# Altium integrated library Linear Technology Power Management Supercapacitor Chargers.IntLib: 96 symbols (part 4 of 8)
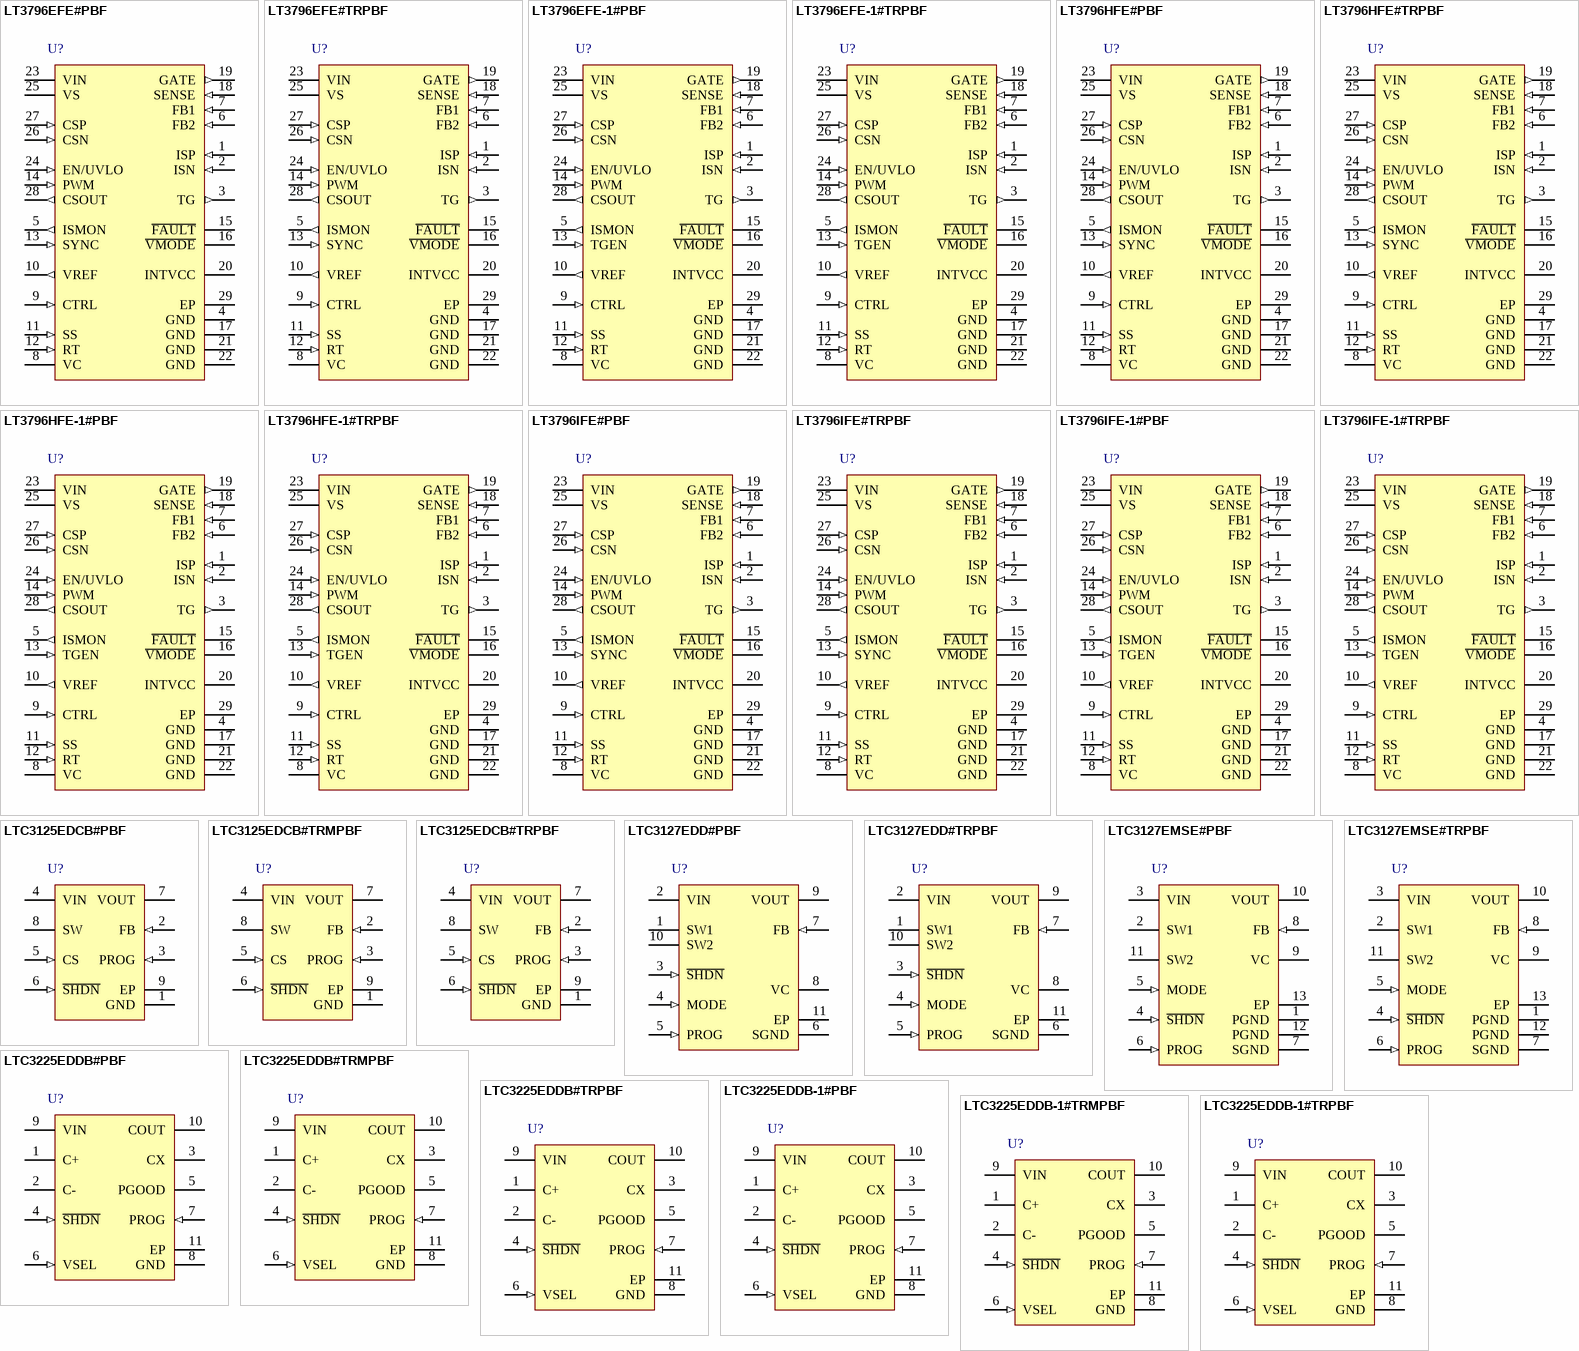
[diagram p6: symbols LT3796EFE#PBF to LTC3225EDDB-1#TRPBF]

## LT3796HFE-1#TRPBF
designator U?
Constant-Current and Constant-Voltage Controller with Dual Current Sense, 6 to 100 V Vin, 100 V Vout MAX, 28-pin SOP (FE-28-EPV-EB), -40 to 150 degC, Pb-Free, Tape and Reel; Manufacturer: Linear Technology; PartNumber: LT3796HFE-1#TRPBF; Output Current(A): 10; Topology: Buck, Boost, Buck-Boost, Sepic; DatasheetVersion: Rev. A; PackageVersion: Rev. J, 11/2012; PackageReference: FE-28; PackageDescription: 28-Pin Plastic TSSOP, Body 9.7 x 4.4 mm, Pitch 0.65 mm; Supplier 1: Digi-Key; Supplier Part Number 1: LT3796HFE-1#TRPBF-ND; Supplier 2: Newark; Supplier Part Number 2: 48W6520; Packing: Tape and Reel; RoHS: TRUE; Mounting Technology: Surface Mount; ComponentLink1Description: Manufacturer URL; ComponentLink1URL: http://www.linear.com/; ComponentLink2Description: Datasheet; ComponentLink2URL: http://cds.linear.com/docs/en/datasheet/3796fa.pdf; ComponentLink3Description: Package Specification; ComponentLink3URL: http://cds.linear.com/docs/en/packaging/05081663__J_FE28(EB).pdf
footprint LT-FE-28-EPV-EB_N (SOP, 28-Leads, Body 9.8x4.5mm, Pitch 0.65mm, Thermal Pad 4.75x2.74mm, IPC Medium Density)
footprint LT-FE-28-EPV-EB_L (SOP, 28-Leads, Body 9.8x4.5mm, Pitch 0.65mm, Thermal Pad 4.75x2.74mm, IPC High Density)
footprint LT-FE-28-EPV-EB_M (SOP, 28-Leads, Body 9.8x4.5mm, Pitch 0.65mm, Thermal Pad 4.75x2.74mm, IPC Low Density)
pins: 1 ISP (in) "Connection Point for the Positive Terminal of the Current Feedback Resistor (RLED ). Also serves as positive rail for TG pin driver.", 2 ISN (in) "Connection Point for the Negative Terminal of the Current Feedback Resistor (RLED ).", 3 TG (out) "Top Gate Driver Output. An inverted PWM signal drives series PMOS device between VISP and (VISP - 7 V) if V ISP > 7 V. An internal 7 V clamp protects the PMOS gate by limiting VGS. Leave TG unconnected if not used.", 4 GND (power) "Ground. These pins also serve as current sense input for control loop, sensing negative terminal of current sense resistor in the source of the N-channel MOSFET. Solder the exposed pad directly to ground plane.", 5 ISMON (out) "ISP / ISN Current Report Pin. The LED current sensed by ISP / ISN inputs is reported as VISMON = ILED ?RLED ?4. Leave ISMON pin unconnected if not used. When PWM is low, ISMON is driven to ground. Bypass with a 47(See Datasheet)", 6 FB2 (in) "Voltage Loop Feedback 2 Pin. This pin is connected to the internal transconductance amplifier positive input node. The internal transconductance amplifier with output VC regulates FB2 to 1.25 V through the DC/ DC converter. (See Datasheet)", 7 FB1 (in) "Voltage Loop Feedback 1 Pin. FB1 is intended for constant-voltage regulation or for LED protection / open LED detection.", 8 VC "Transconductance Error Amplifier Output Pin. Used to stabilize the control loop with an RC network. This pin is high impedance when PWM is low, a feature that stores the demand current state variable for the next PWM high (See Datasheet)", 9 CTRL (in) "Current Sense Threshold Adjustment Pin.", 10 VREF (out) "Voltage Reference Output Pin. Typically 2.015 V. This pin drives a resistor divider for the CTRL pin, either for analog dimming or for temperature limit / compensation of LED load. It can supply up to 100 uA.", 11 SS (in) "Soft-Start Pin. This pin modulates oscillator frequency and compensation pin voltage (VC ) clamp. The soft-start interval is set with an external capacitor.", 12 RT (in) "Switching Frequency Adjustment Pin. Set the frequency using a resistor to GND (for resistor values, see the Typical Performance curve or Table 2). Do not leave the RT pin open.", 13 TGEN (in) "Top Gate Driver Enable Pin. TGEN signal low causes the TG pin to transition high and turn off a PMOS switch, independent of the PWM input. Unlike PWM, TGEN low does not put the switching regulator in an idle state. TGEN can (See Datasheet)", 14 PWM (in) "PWM Input Signal Pin. A signal low turns off switching, idles the oscillator, disconnects the VC pin from all internal loads, and makes the TG pin high. There is an equivalent 500 k resistor from PWM pin to GND internally. (See Datasheet)", 15 ~{FAULT} (oc) "An open-collector pull-down on F\A\U\L\T\ asserts when any of the following conditions happen: 1. FB1 overvoltage (V FB1 > 1.3 V), 2. INTV CC undervoltage, 3. LED overcurrent (V(ISP-ISN) > 375 mV), or 4. Thermal shutdown. If (See Datasheet)", 16 ~{VMODE} (oc) "An open-collector pull-down on V\M\O\D\E\ asserts if the FB1 input is above 1.19 V (typical), and V(ISP-ISN) is less than 25 mV (typical). To function, the pin requires an external pull-up resistor. V\M\O\D\E\ status is (See Datasheet)", 17 GND (power) "Ground. These pins also serve as current sense input for control loop, sensing negative terminal of current sense resistor in the source of the N-channel MOSFET. Solder the exposed pad directly to ground plane.", 18 SENSE (in) "The current sense input for the control loop. Kelvin connect this pin to the positive terminal of the switch current sense resistor, RSENSE , in the source of the N-channel MOSFET. The negative terminal of the current sense (See Datasheet)", 19 GATE (out) "N-Channel MOSFET Gate Driver Output. Switches between INTVCC and GND. It is driven to GND during shutdown, fault or idle states.", 20 INTVCC (power) "Regulated Supply for Internal Loads, GATE Driver and Top Gate (PMOS) Driver. Supplied from VIN and regulates to 7.7 V (typical). INTVCC must be bypassed with a 4.7 uF capacitor placed close to the pin. Connect INTV CC (See Datasheet)", 21 GND (power) "Ground. These pins also serve as current sense input for control loop, sensing negative terminal of current sense resistor in the source of the N-channel MOSFET. Solder the exposed pad directly to ground plane.", 22 GND (power) "Ground. These pins also serve as current sense input for control loop, sensing negative terminal of current sense resistor in the source of the N-channel MOSFET. Solder the exposed pad directly to ground plane.", 23 VIN (power) "Input Supply Pin. Must be locally bypassed with a 0.22 uF (or larger) capacitor placed close to the IC.", 24 EN/UVLO (in) "Enable and Undervoltage Lockout Pin.", 25 VS (power) "Current Sense Amplifier Power Supply Pin. This pin supply current to the current sense amplifier and can operate from 3 V to 100 V.", 26 CSN (in) "Negative Current Sense Input Terminal. CSN remains functional for voltages up to 100 V.", 27 CSP (in) "Positive Current Sense Input Terminal. The internal sense amplifier sinks current from CSP to regulate it to the same potential as CSN. A resistor (RIN1 ) tied from VIN to CSP sets the output current ICSOUT = VSNS /R IN1 .", 28 CSOUT (out) "Current Sense Amplifier Output. CSOUT pin sources the current that is drawn from CSP. Typically is output to an external resistor to GND.", 29 EP (power) "Ground. These pins also serve as current sense input for control loop, sensing negative terminal of current sense resistor in the source of the N-channel MOSFET. Solder the exposed pad directly to ground plane."

## LT3796IFE#PBF
designator U?
Constant-Current and Constant-Voltage Controller with Dual Current Sense, 6 to 100 V Vin, 100 V Vout MAX, 28-pin SOP (FE-28-EPV-EB), -40 to 125 degC, Pb-Free; Manufacturer: Linear Technology; PartNumber: LT3796IFE#PBF; Output Current(A): 10; Topology: Buck, Boost, Buck-Boost, Sepic; DatasheetVersion: Rev. A; PackageVersion: Rev. J, 11/2012; PackageReference: FE-28; PackageDescription: 28-Pin Plastic TSSOP, Body 9.7 x 4.4 mm, Pitch 0.65 mm; Supplier 1: Digi-Key; Supplier Part Number 1: LT3796IFE#PBF-ND; Supplier 2: Newark; Supplier Part Number 2: 93T2037; RoHS: TRUE; Mounting Technology: Surface Mount; ComponentLink1Description: Manufacturer URL; ComponentLink1URL: http://www.linear.com/; ComponentLink2Description: Datasheet; ComponentLink2URL: http://cds.linear.com/docs/en/datasheet/3796fa.pdf; ComponentLink3Description: Package Specification; ComponentLink3URL: http://cds.linear.com/docs/en/packaging/05081663__J_FE28(EB).pdf
footprint LT-FE-28-EPV-EB_N (SOP, 28-Leads, Body 9.8x4.5mm, Pitch 0.65mm, Thermal Pad 4.75x2.74mm, IPC Medium Density)
footprint LT-FE-28-EPV-EB_L (SOP, 28-Leads, Body 9.8x4.5mm, Pitch 0.65mm, Thermal Pad 4.75x2.74mm, IPC High Density)
footprint LT-FE-28-EPV-EB_M (SOP, 28-Leads, Body 9.8x4.5mm, Pitch 0.65mm, Thermal Pad 4.75x2.74mm, IPC Low Density)
pins: 1 ISP (in) "Connection Point for the Positive Terminal of the Current Feedback Resistor (RLED ). Also serves as positive rail for TG pin driver.", 2 ISN (in) "Connection Point for the Negative Terminal of the Current Feedback Resistor (RLED ).", 3 TG (out) "Top Gate Driver Output. An inverted PWM signal drives series PMOS device between VISP and (VISP - 7 V) if V ISP > 7 V. An internal 7 V clamp protects the PMOS gate by limiting VGS. Leave TG unconnected if not used.", 4 GND (power) "Ground. These pins also serve as current sense input for control loop, sensing negative terminal of current sense resistor in the source of the N-channel MOSFET. Solder the exposed pad directly to ground plane.", 5 ISMON (out) "ISP / ISN Current Report Pin. The LED current sensed by ISP / ISN inputs is reported as VISMON = ILED • RLED • 4. Leave ISMON pin unconnected if not used. When PWM is low, ISMON is driven to ground. Bypass with a 47(See Datasheet)", 6 FB2 (in) "Voltage Loop Feedback 2 Pin. This pin is connected to the internal transconductance amplifier positive input node. The internal transconductance amplifier with output VC regulates FB2 to 1.25 V through the DC/ DC converter. (See Datasheet)", 7 FB1 (in) "Voltage Loop Feedback 1 Pin. FB1 is intended for constant-voltage regulation or for LED protection / open LED detection.", 8 VC "Transconductance Error Amplifier Output Pin. Used to stabilize the control loop with an RC network. This pin is high impedance when PWM is low, a feature that stores the demand current state variable for the next PWM high (See Datasheet)", 9 CTRL (in) "Current Sense Threshold Adjustment Pin.", 10 VREF (out) "Voltage Reference Output Pin. Typically 2.015 V. This pin drives a resistor divider for the CTRL pin, either for analog dimming or for temperature limit / compensation of LED load. It can supply up to 100 uA.", 11 SS (in) "Soft-Start Pin. This pin modulates oscillator frequency and compensation pin voltage (VC ) clamp. The soft-start interval is set with an external capacitor.", 12 RT (in) "Switching Frequency Adjustment Pin. Set the frequency using a resistor to GND (for resistor values, see the Typical Performance curve or Table 2). Do not leave the RT pin open.", 13 SYNC (in) "The SYNC pin is used to syn- chronize the internal oscillator to an external logic level signal. If SYNC is used, the RT resistor should be chosen to program an internal switching frequency 20% slower than the SYNC pulse (See Datasheet)", 14 PWM (in) "PWM Input Signal Pin. A signal low turns off switching, idles the oscillator, disconnects the VC pin from all internal loads, and makes the TG pin high. There is an equivalent 500 k resistor from PWM pin to GND internally. (See Datasheet)", 15 ~{FAULT} (oc) "An open-collector pull-down on F\A\U\L\T\ asserts when any of the following conditions happen: 1. FB1 overvoltage (V FB1 > 1.3 V), 2. INTV CC undervoltage, 3. LED overcurrent (V(ISP-ISN) > 375 mV), or 4. Thermal shutdown. If (See Datasheet)", 16 ~{VMODE} (oc) "An open-collector pull-down on V\M\O\D\E\ asserts if the FB1 input is above 1.19 V (typical), and V(ISP-ISN) is less than 25 mV (typical). To function, the pin requires an external pull-up resistor. V\M\O\D\E\ status is (See Datasheet)", 17 GND (power) "Ground. These pins also serve as current sense input for control loop, sensing negative terminal of current sense resistor in the source of the N-channel MOSFET. Solder the exposed pad directly to ground plane.", 18 SENSE (in) "The current sense input for the control loop. Kelvin connect this pin to the positive terminal of the switch current sense resistor, RSENSE , in the source of the N-channel MOSFET. The negative terminal of the current sense (See Datasheet)", 19 GATE (out) "N-Channel MOSFET Gate Driver Output. Switches between INTVCC and GND. It is driven to GND during shutdown, fault or idle states.", 20 INTVCC (power) "Regulated Supply for Internal Loads, GATE Driver and Top Gate (PMOS) Driver. Supplied from VIN and regulates to 7.7 V (typical). INTVCC must be bypassed with a 4.7 uF capacitor placed close to the pin. Connect INTV CC (See Datasheet)", 21 GND (power) "Ground. These pins also serve as current sense input for control loop, sensing negative terminal of current sense resistor in the source of the N-channel MOSFET. Solder the exposed pad directly to ground plane.", 22 GND (power) "Ground. These pins also serve as current sense input for control loop, sensing negative terminal of current sense resistor in the source of the N-channel MOSFET. Solder the exposed pad directly to ground plane.", 23 VIN (power) "Input Supply Pin. Must be locally bypassed with a 0.22 uF (or larger) capacitor placed close to the IC.", 24 EN/UVLO (in) "Enable and Undervoltage Lockout Pin.", 25 VS (power) "Current Sense Amplifier Power Supply Pin. This pin supply current to the current sense amplifier and can operate from 3 V to 100 V.", 26 CSN (in) "Negative Current Sense Input Terminal. CSN remains functional for voltages up to 100 V.", 27 CSP (in) "Positive Current Sense Input Terminal. The internal sense amplifier sinks current from CSP to regulate it to the same potential as CSN. A resistor (RIN1 ) tied from VIN to CSP sets the output current ICSOUT = VSNS /R IN1 .", 28 CSOUT (out) "Current Sense Amplifier Output. CSOUT pin sources the current that is drawn from CSP. Typically is output to an external resistor to GND.", 29 EP (power) "Ground. These pins also serve as current sense input for control loop, sensing negative terminal of current sense resistor in the source of the N-channel MOSFET. Solder the exposed pad directly to ground plane."

## LT3796IFE#TRPBF
designator U?
Constant-Current and Constant-Voltage Controller with Dual Current Sense, 6 to 100 V Vin, 100 V Vout MAX, 28-pin SOP (FE-28-EPV-EB), -40 to 125 degC, Pb-Free, Tape and Reel; Manufacturer: Linear Technology; PartNumber: LT3796IFE#TRPBF; Output Current(A): 10; Topology: Buck, Boost, Buck-Boost, Sepic; DatasheetVersion: Rev. A; PackageVersion: Rev. J, 11/2012; PackageReference: FE-28; PackageDescription: 28-Pin Plastic TSSOP, Body 9.7 x 4.4 mm, Pitch 0.65 mm; Supplier 1: Digi-Key; Supplier Part Number 1: LT3796IFE#TRPBF-ND; Supplier 2: Newark; Supplier Part Number 2: 93T2038; Packing: Tape and Reel; RoHS: TRUE; Mounting Technology: Surface Mount; ComponentLink1Description: Manufacturer URL; ComponentLink1URL: http://www.linear.com/; ComponentLink2Description: Datasheet; ComponentLink2URL: http://cds.linear.com/docs/en/datasheet/3796fa.pdf; ComponentLink3Description: Package Specification; ComponentLink3URL: http://cds.linear.com/docs/en/packaging/05081663__J_FE28(EB).pdf
footprint LT-FE-28-EPV-EB_N (SOP, 28-Leads, Body 9.8x4.5mm, Pitch 0.65mm, Thermal Pad 4.75x2.74mm, IPC Medium Density)
footprint LT-FE-28-EPV-EB_L (SOP, 28-Leads, Body 9.8x4.5mm, Pitch 0.65mm, Thermal Pad 4.75x2.74mm, IPC High Density)
footprint LT-FE-28-EPV-EB_M (SOP, 28-Leads, Body 9.8x4.5mm, Pitch 0.65mm, Thermal Pad 4.75x2.74mm, IPC Low Density)
pins: 1 ISP (in) "Connection Point for the Positive Terminal of the Current Feedback Resistor (RLED ). Also serves as positive rail for TG pin driver.", 2 ISN (in) "Connection Point for the Negative Terminal of the Current Feedback Resistor (RLED ).", 3 TG (out) "Top Gate Driver Output. An inverted PWM signal drives series PMOS device between VISP and (VISP - 7 V) if V ISP > 7 V. An internal 7 V clamp protects the PMOS gate by limiting VGS. Leave TG unconnected if not used.", 4 GND (power) "Ground. These pins also serve as current sense input for control loop, sensing negative terminal of current sense resistor in the source of the N-channel MOSFET. Solder the exposed pad directly to ground plane.", 5 ISMON (out) "ISP / ISN Current Report Pin. The LED current sensed by ISP / ISN inputs is reported as VISMON = ILED • RLED • 4. Leave ISMON pin unconnected if not used. When PWM is low, ISMON is driven to ground. Bypass with a 47(See Datasheet)", 6 FB2 (in) "Voltage Loop Feedback 2 Pin. This pin is connected to the internal transconductance amplifier positive input node. The internal transconductance amplifier with output VC regulates FB2 to 1.25 V through the DC/ DC converter. (See Datasheet)", 7 FB1 (in) "Voltage Loop Feedback 1 Pin. FB1 is intended for constant-voltage regulation or for LED protection / open LED detection.", 8 VC "Transconductance Error Amplifier Output Pin. Used to stabilize the control loop with an RC network. This pin is high impedance when PWM is low, a feature that stores the demand current state variable for the next PWM high (See Datasheet)", 9 CTRL (in) "Current Sense Threshold Adjustment Pin.", 10 VREF (out) "Voltage Reference Output Pin. Typically 2.015 V. This pin drives a resistor divider for the CTRL pin, either for analog dimming or for temperature limit / compensation of LED load. It can supply up to 100 uA.", 11 SS (in) "Soft-Start Pin. This pin modulates oscillator frequency and compensation pin voltage (VC ) clamp. The soft-start interval is set with an external capacitor.", 12 RT (in) "Switching Frequency Adjustment Pin. Set the frequency using a resistor to GND (for resistor values, see the Typical Performance curve or Table 2). Do not leave the RT pin open.", 13 SYNC (in) "The SYNC pin is used to syn- chronize the internal oscillator to an external logic level signal. If SYNC is used, the RT resistor should be chosen to program an internal switching frequency 20% slower than the SYNC pulse (See Datasheet)", 14 PWM (in) "PWM Input Signal Pin. A signal low turns off switching, idles the oscillator, disconnects the VC pin from all internal loads, and makes the TG pin high. There is an equivalent 500 k resistor from PWM pin to GND internally. (See Datasheet)", 15 ~{FAULT} (oc) "An open-collector pull-down on F\A\U\L\T\ asserts when any of the following conditions happen: 1. FB1 overvoltage (V FB1 > 1.3 V), 2. INTV CC undervoltage, 3. LED overcurrent (V(ISP-ISN) > 375 mV), or 4. Thermal shutdown. If (See Datasheet)", 16 ~{VMODE} (oc) "An open-collector pull-down on V\M\O\D\E\ asserts if the FB1 input is above 1.19 V (typical), and V(ISP-ISN) is less than 25 mV (typical). To function, the pin requires an external pull-up resistor. V\M\O\D\E\ status is (See Datasheet)", 17 GND (power) "Ground. These pins also serve as current sense input for control loop, sensing negative terminal of current sense resistor in the source of the N-channel MOSFET. Solder the exposed pad directly to ground plane.", 18 SENSE (in) "The current sense input for the control loop. Kelvin connect this pin to the positive terminal of the switch current sense resistor, RSENSE , in the source of the N-channel MOSFET. The negative terminal of the current sense (See Datasheet)", 19 GATE (out) "N-Channel MOSFET Gate Driver Output. Switches between INTVCC and GND. It is driven to GND during shutdown, fault or idle states.", 20 INTVCC (power) "Regulated Supply for Internal Loads, GATE Driver and Top Gate (PMOS) Driver. Supplied from VIN and regulates to 7.7 V (typical). INTVCC must be bypassed with a 4.7 uF capacitor placed close to the pin. Connect INTV CC (See Datasheet)", 21 GND (power) "Ground. These pins also serve as current sense input for control loop, sensing negative terminal of current sense resistor in the source of the N-channel MOSFET. Solder the exposed pad directly to ground plane.", 22 GND (power) "Ground. These pins also serve as current sense input for control loop, sensing negative terminal of current sense resistor in the source of the N-channel MOSFET. Solder the exposed pad directly to ground plane.", 23 VIN (power) "Input Supply Pin. Must be locally bypassed with a 0.22 uF (or larger) capacitor placed close to the IC.", 24 EN/UVLO (in) "Enable and Undervoltage Lockout Pin.", 25 VS (power) "Current Sense Amplifier Power Supply Pin. This pin supply current to the current sense amplifier and can operate from 3 V to 100 V.", 26 CSN (in) "Negative Current Sense Input Terminal. CSN remains functional for voltages up to 100 V.", 27 CSP (in) "Positive Current Sense Input Terminal. The internal sense amplifier sinks current from CSP to regulate it to the same potential as CSN. A resistor (RIN1 ) tied from VIN to CSP sets the output current ICSOUT = VSNS /R IN1 .", 28 CSOUT (out) "Current Sense Amplifier Output. CSOUT pin sources the current that is drawn from CSP. Typically is output to an external resistor to GND.", 29 EP (power) "Ground. These pins also serve as current sense input for control loop, sensing negative terminal of current sense resistor in the source of the N-channel MOSFET. Solder the exposed pad directly to ground plane."

## LT3796IFE-1#PBF
designator U?
Constant-Current and Constant-Voltage Controller with Dual Current Sense, 6 to 100 V Vin, 100 V Vout MAX, 28-pin SOP (FE-28-EPV-EB), -40 to 125 degC, Pb-Free; Manufacturer: Linear Technology; PartNumber: LT3796IFE-1#PBF; Output Current(A): 10; Topology: Buck, Boost, Buck-Boost, Sepic; DatasheetVersion: Rev. A; PackageVersion: Rev. J, 11/2012; PackageReference: FE-28; PackageDescription: 28-Pin Plastic TSSOP, Body 9.7 x 4.4 mm, Pitch 0.65 mm; Supplier 1: Digi-Key; Supplier Part Number 1: LT3796IFE-1#PBF-ND; Supplier 2: Newark; Supplier Part Number 2: 48W6521; RoHS: TRUE; Mounting Technology: Surface Mount; ComponentLink1Description: Manufacturer URL; ComponentLink1URL: http://www.linear.com/; ComponentLink2Description: Datasheet; ComponentLink2URL: http://cds.linear.com/docs/en/datasheet/3796fa.pdf; ComponentLink3Description: Package Specification; ComponentLink3URL: http://cds.linear.com/docs/en/packaging/05081663__J_FE28(EB).pdf
footprint LT-FE-28-EPV-EB_N (SOP, 28-Leads, Body 9.8x4.5mm, Pitch 0.65mm, Thermal Pad 4.75x2.74mm, IPC Medium Density)
footprint LT-FE-28-EPV-EB_L (SOP, 28-Leads, Body 9.8x4.5mm, Pitch 0.65mm, Thermal Pad 4.75x2.74mm, IPC High Density)
footprint LT-FE-28-EPV-EB_M (SOP, 28-Leads, Body 9.8x4.5mm, Pitch 0.65mm, Thermal Pad 4.75x2.74mm, IPC Low Density)
pins: 1 ISP (in) "Connection Point for the Positive Terminal of the Current Feedback Resistor (RLED ). Also serves as positive rail for TG pin driver.", 2 ISN (in) "Connection Point for the Negative Terminal of the Current Feedback Resistor (RLED ).", 3 TG (out) "Top Gate Driver Output. An inverted PWM signal drives series PMOS device between VISP and (VISP - 7 V) if V ISP > 7 V. An internal 7 V clamp protects the PMOS gate by limiting VGS. Leave TG unconnected if not used.", 4 GND (power) "Ground. These pins also serve as current sense input for control loop, sensing negative terminal of current sense resistor in the source of the N-channel MOSFET. Solder the exposed pad directly to ground plane.", 5 ISMON (out) "ISP / ISN Current Report Pin. The LED current sensed by ISP / ISN inputs is reported as VISMON = ILED ?RLED ?4. Leave ISMON pin unconnected if not used. When PWM is low, ISMON is driven to ground. Bypass with a 47(See Datasheet)", 6 FB2 (in) "Voltage Loop Feedback 2 Pin. This pin is connected to the internal transconductance amplifier positive input node. The internal transconductance amplifier with output VC regulates FB2 to 1.25 V through the DC/ DC converter. (See Datasheet)", 7 FB1 (in) "Voltage Loop Feedback 1 Pin. FB1 is intended for constant-voltage regulation or for LED protection / open LED detection.", 8 VC "Transconductance Error Amplifier Output Pin. Used to stabilize the control loop with an RC network. This pin is high impedance when PWM is low, a feature that stores the demand current state variable for the next PWM high (See Datasheet)", 9 CTRL (in) "Current Sense Threshold Adjustment Pin.", 10 VREF (out) "Voltage Reference Output Pin. Typically 2.015 V. This pin drives a resistor divider for the CTRL pin, either for analog dimming or for temperature limit / compensation of LED load. It can supply up to 100 uA.", 11 SS (in) "Soft-Start Pin. This pin modulates oscillator frequency and compensation pin voltage (VC ) clamp. The soft-start interval is set with an external capacitor.", 12 RT (in) "Switching Frequency Adjustment Pin. Set the frequency using a resistor to GND (for resistor values, see the Typical Performance curve or Table 2). Do not leave the RT pin open.", 13 TGEN (in) "Top Gate Driver Enable Pin. TGEN signal low causes the TG pin to transition high and turn off a PMOS switch, independent of the PWM input. Unlike PWM, TGEN low does not put the switching regulator in an idle state. TGEN can (See Datasheet)", 14 PWM (in) "PWM Input Signal Pin. A signal low turns off switching, idles the oscillator, disconnects the VC pin from all internal loads, and makes the TG pin high. There is an equivalent 500 k resistor from PWM pin to GND internally. (See Datasheet)", 15 ~{FAULT} (oc) "An open-collector pull-down on F\A\U\L\T\ asserts when any of the following conditions happen: 1. FB1 overvoltage (V FB1 > 1.3 V), 2. INTV CC undervoltage, 3. LED overcurrent (V(ISP-ISN) > 375 mV), or 4. Thermal shutdown. If (See Datasheet)", 16 ~{VMODE} (oc) "An open-collector pull-down on V\M\O\D\E\ asserts if the FB1 input is above 1.19 V (typical), and V(ISP-ISN) is less than 25 mV (typical). To function, the pin requires an external pull-up resistor. V\M\O\D\E\ status is (See Datasheet)", 17 GND (power) "Ground. These pins also serve as current sense input for control loop, sensing negative terminal of current sense resistor in the source of the N-channel MOSFET. Solder the exposed pad directly to ground plane.", 18 SENSE (in) "The current sense input for the control loop. Kelvin connect this pin to the positive terminal of the switch current sense resistor, RSENSE , in the source of the N-channel MOSFET. The negative terminal of the current sense (See Datasheet)", 19 GATE (out) "N-Channel MOSFET Gate Driver Output. Switches between INTVCC and GND. It is driven to GND during shutdown, fault or idle states.", 20 INTVCC (power) "Regulated Supply for Internal Loads, GATE Driver and Top Gate (PMOS) Driver. Supplied from VIN and regulates to 7.7 V (typical). INTVCC must be bypassed with a 4.7 uF capacitor placed close to the pin. Connect INTV CC (See Datasheet)", 21 GND (power) "Ground. These pins also serve as current sense input for control loop, sensing negative terminal of current sense resistor in the source of the N-channel MOSFET. Solder the exposed pad directly to ground plane.", 22 GND (power) "Ground. These pins also serve as current sense input for control loop, sensing negative terminal of current sense resistor in the source of the N-channel MOSFET. Solder the exposed pad directly to ground plane.", 23 VIN (power) "Input Supply Pin. Must be locally bypassed with a 0.22 uF (or larger) capacitor placed close to the IC.", 24 EN/UVLO (in) "Enable and Undervoltage Lockout Pin.", 25 VS (power) "Current Sense Amplifier Power Supply Pin. This pin supply current to the current sense amplifier and can operate from 3 V to 100 V.", 26 CSN (in) "Negative Current Sense Input Terminal. CSN remains functional for voltages up to 100 V.", 27 CSP (in) "Positive Current Sense Input Terminal. The internal sense amplifier sinks current from CSP to regulate it to the same potential as CSN. A resistor (RIN1 ) tied from VIN to CSP sets the output current ICSOUT = VSNS /R IN1 .", 28 CSOUT (out) "Current Sense Amplifier Output. CSOUT pin sources the current that is drawn from CSP. Typically is output to an external resistor to GND.", 29 EP (power) "Ground. These pins also serve as current sense input for control loop, sensing negative terminal of current sense resistor in the source of the N-channel MOSFET. Solder the exposed pad directly to ground plane."

## LT3796IFE-1#TRPBF
designator U?
Constant-Current and Constant-Voltage Controller with Dual Current Sense, 6 to 100 V Vin, 100 V Vout MAX, 28-pin SOP (FE-28-EPV-EB), -40 to 125 degC, Pb-Free, Tape and Reel; Manufacturer: Linear Technology; PartNumber: LT3796IFE-1#TRPBF; Output Current(A): 10; Topology: Buck, Boost, Buck-Boost, Sepic; DatasheetVersion: Rev. A; PackageVersion: Rev. J, 11/2012; PackageReference: FE-28; PackageDescription: 28-Pin Plastic TSSOP, Body 9.7 x 4.4 mm, Pitch 0.65 mm; Supplier 1: Digi-Key; Supplier Part Number 1: LT3796IFE-1#TRPBF-ND; Supplier 2: Newark; Supplier Part Number 2: 48W6522; Packing: Tape and Reel; RoHS: TRUE; Mounting Technology: Surface Mount; ComponentLink1Description: Manufacturer URL; ComponentLink1URL: http://www.linear.com/; ComponentLink2Description: Datasheet; ComponentLink2URL: http://cds.linear.com/docs/en/datasheet/3796fa.pdf; ComponentLink3Description: Package Specification; ComponentLink3URL: http://cds.linear.com/docs/en/packaging/05081663__J_FE28(EB).pdf
footprint LT-FE-28-EPV-EB_N (SOP, 28-Leads, Body 9.8x4.5mm, Pitch 0.65mm, Thermal Pad 4.75x2.74mm, IPC Medium Density)
footprint LT-FE-28-EPV-EB_L (SOP, 28-Leads, Body 9.8x4.5mm, Pitch 0.65mm, Thermal Pad 4.75x2.74mm, IPC High Density)
footprint LT-FE-28-EPV-EB_M (SOP, 28-Leads, Body 9.8x4.5mm, Pitch 0.65mm, Thermal Pad 4.75x2.74mm, IPC Low Density)
pins: 1 ISP (in) "Connection Point for the Positive Terminal of the Current Feedback Resistor (RLED ). Also serves as positive rail for TG pin driver.", 2 ISN (in) "Connection Point for the Negative Terminal of the Current Feedback Resistor (RLED ).", 3 TG (out) "Top Gate Driver Output. An inverted PWM signal drives series PMOS device between VISP and (VISP - 7 V) if V ISP > 7 V. An internal 7 V clamp protects the PMOS gate by limiting VGS. Leave TG unconnected if not used.", 4 GND (power) "Ground. These pins also serve as current sense input for control loop, sensing negative terminal of current sense resistor in the source of the N-channel MOSFET. Solder the exposed pad directly to ground plane.", 5 ISMON (out) "ISP / ISN Current Report Pin. The LED current sensed by ISP / ISN inputs is reported as VISMON = ILED ?RLED ?4. Leave ISMON pin unconnected if not used. When PWM is low, ISMON is driven to ground. Bypass with a 47(See Datasheet)", 6 FB2 (in) "Voltage Loop Feedback 2 Pin. This pin is connected to the internal transconductance amplifier positive input node. The internal transconductance amplifier with output VC regulates FB2 to 1.25 V through the DC/ DC converter. (See Datasheet)", 7 FB1 (in) "Voltage Loop Feedback 1 Pin. FB1 is intended for constant-voltage regulation or for LED protection / open LED detection.", 8 VC "Transconductance Error Amplifier Output Pin. Used to stabilize the control loop with an RC network. This pin is high impedance when PWM is low, a feature that stores the demand current state variable for the next PWM high (See Datasheet)", 9 CTRL (in) "Current Sense Threshold Adjustment Pin.", 10 VREF (out) "Voltage Reference Output Pin. Typically 2.015 V. This pin drives a resistor divider for the CTRL pin, either for analog dimming or for temperature limit / compensation of LED load. It can supply up to 100 uA.", 11 SS (in) "Soft-Start Pin. This pin modulates oscillator frequency and compensation pin voltage (VC ) clamp. The soft-start interval is set with an external capacitor.", 12 RT (in) "Switching Frequency Adjustment Pin. Set the frequency using a resistor to GND (for resistor values, see the Typical Performance curve or Table 2). Do not leave the RT pin open.", 13 TGEN (in) "Top Gate Driver Enable Pin. TGEN signal low causes the TG pin to transition high and turn off a PMOS switch, independent of the PWM input. Unlike PWM, TGEN low does not put the switching regulator in an idle state. TGEN can (See Datasheet)", 14 PWM (in) "PWM Input Signal Pin. A signal low turns off switching, idles the oscillator, disconnects the VC pin from all internal loads, and makes the TG pin high. There is an equivalent 500 k resistor from PWM pin to GND internally. (See Datasheet)", 15 ~{FAULT} (oc) "An open-collector pull-down on F\A\U\L\T\ asserts when any of the following conditions happen: 1. FB1 overvoltage (V FB1 > 1.3 V), 2. INTV CC undervoltage, 3. LED overcurrent (V(ISP-ISN) > 375 mV), or 4. Thermal shutdown. If (See Datasheet)", 16 ~{VMODE} (oc) "An open-collector pull-down on V\M\O\D\E\ asserts if the FB1 input is above 1.19 V (typical), and V(ISP-ISN) is less than 25 mV (typical). To function, the pin requires an external pull-up resistor. V\M\O\D\E\ status is (See Datasheet)", 17 GND (power) "Ground. These pins also serve as current sense input for control loop, sensing negative terminal of current sense resistor in the source of the N-channel MOSFET. Solder the exposed pad directly to ground plane.", 18 SENSE (in) "The current sense input for the control loop. Kelvin connect this pin to the positive terminal of the switch current sense resistor, RSENSE , in the source of the N-channel MOSFET. The negative terminal of the current sense (See Datasheet)", 19 GATE (out) "N-Channel MOSFET Gate Driver Output. Switches between INTVCC and GND. It is driven to GND during shutdown, fault or idle states.", 20 INTVCC (power) "Regulated Supply for Internal Loads, GATE Driver and Top Gate (PMOS) Driver. Supplied from VIN and regulates to 7.7 V (typical). INTVCC must be bypassed with a 4.7 uF capacitor placed close to the pin. Connect INTV CC (See Datasheet)", 21 GND (power) "Ground. These pins also serve as current sense input for control loop, sensing negative terminal of current sense resistor in the source of the N-channel MOSFET. Solder the exposed pad directly to ground plane.", 22 GND (power) "Ground. These pins also serve as current sense input for control loop, sensing negative terminal of current sense resistor in the source of the N-channel MOSFET. Solder the exposed pad directly to ground plane.", 23 VIN (power) "Input Supply Pin. Must be locally bypassed with a 0.22 uF (or larger) capacitor placed close to the IC.", 24 EN/UVLO (in) "Enable and Undervoltage Lockout Pin.", 25 VS (power) "Current Sense Amplifier Power Supply Pin. This pin supply current to the current sense amplifier and can operate from 3 V to 100 V.", 26 CSN (in) "Negative Current Sense Input Terminal. CSN remains functional for voltages up to 100 V.", 27 CSP (in) "Positive Current Sense Input Terminal. The internal sense amplifier sinks current from CSP to regulate it to the same potential as CSN. A resistor (RIN1 ) tied from VIN to CSP sets the output current ICSOUT = VSNS /R IN1 .", 28 CSOUT (out) "Current Sense Amplifier Output. CSOUT pin sources the current that is drawn from CSP. Typically is output to an external resistor to GND.", 29 EP (power) "Ground. These pins also serve as current sense input for control loop, sensing negative terminal of current sense resistor in the source of the N-channel MOSFET. Solder the exposed pad directly to ground plane."

## LTC3125EDCB#PBF
designator U?
1.2 A Synchronous Step-Up DC/DC Converter with Input Current Limit, 1.6 to 5.5 V Vin, 5.25 V Vout MAX, 8-pin SON (DCB-8), -40 to 125 degC, Pb-Free; Manufacturer: Linear Technology; PartNumber: LTC3125EDCB#PBF; Output Current(A): 1; Topology: Boost; DatasheetVersion: Rev. A; PackageVersion: Rev. A, 06/2010; PackageReference: DCB-8; PackageDescription: 8-Pin Plastic DFN, Body 2 x 3 mm, Pitch 0.45 mm; Supplier 1: Newark; Supplier Part Number 1: 44P2418; RoHS: TRUE; Mounting Technology: Surface Mount; ComponentLink1Description: Manufacturer URL; ComponentLink1URL: http://www.linear.com/; ComponentLink2Description: Datasheet; ComponentLink2URL: http://cds.linear.com/docs/en/datasheet/3125fa.pdf; ComponentLink3Description: Package Specification; ComponentLink3URL: http://cds.linear.com/docs/en/packaging/DFN_8_05-08-1718.pdf
footprint LT-DCB-8_V (SON, 8-Leads, Body 3x2mm, Pitch 0.45mm, Thermal Pad 1.65x1.35mm)
pins: 1 GND (power) "Ground. The exposed pad must be soldered to the PCB ground plane for electrical connection and for rated thermal performance.", 2 FB (in) "Feedback Input to the Error Amplifier. Connect the resistor divider tap to this pin. The top of the divider connects to VOUT and the bottom of the divider connects to GND. The output voltage can be adjusted from 1.8V to 5.(See Datasheet)", 3 PROG (in) "Programming Input for Average Input Current. This pin should be connected to ground through an external resistor (RPROG) to set input average current limit threshold. Refer to the Component Selection section in Applications (See Datasheet)", 4 VIN (power) "Input Voltage. The device is powered from VIN until VOUT exceeds VIN. Once VOUT is greater than (VIN + 0.25V), the device is powered from VOUT. Place a ceramic bypass capacitor from VIN to GND. A minimum value of 1uF is (See Datasheet)", 5 CS (in) "Current Sense Resistor Connection Point. Connect the inductor directly to CS. An internal 60mohm sense resistor is connected between CS and VIN.", 6 ~{SHDN} (in) "Logic Controlled Shutdown Input. Bringing this pin above 1V enables the part, forcing this pin below 0.35V disables the part.", 7 VOUT (power) "Output Voltage Sense and the Output of the Synchronous Rectifier. Connect the output fi lter capacitor from VOUT to GND, close to the IC. A minimum value of 150uF is recommended. Due to the output disconnect feature, VOUT is (See Datasheet)", 8 SW "Switch Pin. Connect an inductor from this pin to CS. An internal anti-ringing resistor is connected across SW and CS after the inductor current has dropped near zero.", 9 EP (power) "Ground. The exposed pad must be soldered to the PCB ground plane for electrical connection and for rated thermal performance."

## LTC3125EDCB#TRMPBF
designator U?
1.2 A Synchronous Step-Up DC/DC Converter with Input Current Limit, 1.6 to 5.5 V Vin, 5.25 V Vout MAX, 8-pin SON (DCB-8), -40 to 125 degC, Pb-Free, Mini Tape and Reel; Manufacturer: Linear Technology; PartNumber: LTC3125EDCB#TRMPBF; Output Current(A): 1; Topology: Boost; DatasheetVersion: Rev. A; PackageVersion: Rev. A, 06/2010; PackageReference: DCB-8; PackageDescription: 8-Pin Plastic DFN, Body 2 x 3 mm, Pitch 0.45 mm; Supplier 1: Digi-Key; Supplier Part Number 1: LTC3125EDCB#TRMPBFTR-ND; Supplier 2: Digi-Key; Supplier Part Number 2: LTC3125EDCB#TRMPBFCT-ND; Supplier 3: Digi-Key; Supplier Part Number 3: LTC3125EDCB#TRMPBFDKR-ND; Supplier 4: Farnell; Supplier Part Number 4: 1715212RL; Supplier 5: Farnell; Supplier Part Number 5: 1715212; Supplier 6: Newark; Supplier Part Number 6: 44P2419; Packing: Mini Tape and Reel; RoHS: TRUE; Mounting Technology: Surface Mount; ComponentLink1Description: Manufacturer URL; ComponentLink1URL: http://www.linear.com/; ComponentLink2Description: Datasheet; ComponentLink2URL: http://cds.linear.com/docs/en/datasheet/3125fa.pdf; ComponentLink3Description: Package Specification; ComponentLink3URL: http://cds.linear.com/docs/en/packaging/DFN_8_05-08-1718.pdf
footprint LT-DCB-8_V (SON, 8-Leads, Body 3x2mm, Pitch 0.45mm, Thermal Pad 1.65x1.35mm)
pins: 1 GND (power) "Ground. The exposed pad must be soldered to the PCB ground plane for electrical connection and for rated thermal performance.", 2 FB (in) "Feedback Input to the Error Amplifier. Connect the resistor divider tap to this pin. The top of the divider connects to VOUT and the bottom of the divider connects to GND. The output voltage can be adjusted from 1.8V to 5.(See Datasheet)", 3 PROG (in) "Programming Input for Average Input Current. This pin should be connected to ground through an external resistor (RPROG) to set input average current limit threshold. Refer to the Component Selection section in Applications (See Datasheet)", 4 VIN (power) "Input Voltage. The device is powered from VIN until VOUT exceeds VIN. Once VOUT is greater than (VIN + 0.25V), the device is powered from VOUT. Place a ceramic bypass capacitor from VIN to GND. A minimum value of 1uF is (See Datasheet)", 5 CS (in) "Current Sense Resistor Connection Point. Connect the inductor directly to CS. An internal 60mohm sense resistor is connected between CS and VIN.", 6 ~{SHDN} (in) "Logic Controlled Shutdown Input. Bringing this pin above 1V enables the part, forcing this pin below 0.35V disables the part.", 7 VOUT (power) "Output Voltage Sense and the Output of the Synchronous Rectifier. Connect the output fi lter capacitor from VOUT to GND, close to the IC. A minimum value of 150uF is recommended. Due to the output disconnect feature, VOUT is (See Datasheet)", 8 SW "Switch Pin. Connect an inductor from this pin to CS. An internal anti-ringing resistor is connected across SW and CS after the inductor current has dropped near zero.", 9 EP (power) "Ground. The exposed pad must be soldered to the PCB ground plane for electrical connection and for rated thermal performance."

## LTC3125EDCB#TRPBF
designator U?
1.2 A Synchronous Step-Up DC/DC Converter with Input Current Limit, 1.6 to 5.5 V Vin, 5.25 V Vout MAX, 8-pin SON (DCB-8), -40 to 125 degC, Pb-Free, Tape and Reel; Manufacturer: Linear Technology; PartNumber: LTC3125EDCB#TRPBF; Output Current(A): 1; Topology: Boost; DatasheetVersion: Rev. A; PackageVersion: Rev. A, 06/2010; PackageReference: DCB-8; PackageDescription: 8-Pin Plastic DFN, Body 2 x 3 mm, Pitch 0.45 mm; Supplier 1: Digi-Key; Supplier Part Number 1: LTC3125EDCB#TRPBF-ND; Packing: Tape and Reel; RoHS: TRUE; Mounting Technology: Surface Mount; ComponentLink1Description: Manufacturer URL; ComponentLink1URL: http://www.linear.com/; ComponentLink2Description: Datasheet; ComponentLink2URL: http://cds.linear.com/docs/en/datasheet/3125fa.pdf; ComponentLink3Description: Package Specification; ComponentLink3URL: http://cds.linear.com/docs/en/packaging/DFN_8_05-08-1718.pdf
footprint LT-DCB-8_V (SON, 8-Leads, Body 3x2mm, Pitch 0.45mm, Thermal Pad 1.65x1.35mm)
pins: 1 GND (power) "Ground. The exposed pad must be soldered to the PCB ground plane for electrical connection and for rated thermal performance.", 2 FB (in) "Feedback Input to the Error Amplifier. Connect the resistor divider tap to this pin. The top of the divider connects to VOUT and the bottom of the divider connects to GND. The output voltage can be adjusted from 1.8V to 5.(See Datasheet)", 3 PROG (in) "Programming Input for Average Input Current. This pin should be connected to ground through an external resistor (RPROG) to set input average current limit threshold. Refer to the Component Selection section in Applications (See Datasheet)", 4 VIN (power) "Input Voltage. The device is powered from VIN until VOUT exceeds VIN. Once VOUT is greater than (VIN + 0.25V), the device is powered from VOUT. Place a ceramic bypass capacitor from VIN to GND. A minimum value of 1uF is (See Datasheet)", 5 CS (in) "Current Sense Resistor Connection Point. Connect the inductor directly to CS. An internal 60mohm sense resistor is connected between CS and VIN.", 6 ~{SHDN} (in) "Logic Controlled Shutdown Input. Bringing this pin above 1V enables the part, forcing this pin below 0.35V disables the part.", 7 VOUT (power) "Output Voltage Sense and the Output of the Synchronous Rectifier. Connect the output fi lter capacitor from VOUT to GND, close to the IC. A minimum value of 150uF is recommended. Due to the output disconnect feature, VOUT is (See Datasheet)", 8 SW "Switch Pin. Connect an inductor from this pin to CS. An internal anti-ringing resistor is connected across SW and CS after the inductor current has dropped near zero.", 9 EP (power) "Ground. The exposed pad must be soldered to the PCB ground plane for electrical connection and for rated thermal performance."

## LTC3127EDD#PBF
designator U?
1 A Buck-Boost DC/DC Converer with Porgrammable Input Current Limit, 1.8 to 5.5 V Vin, 5.25 V Vout MAX, 10-pin SON (DD-10), -40 to 85 degC, Pb-Free; Manufacturer: Linear Technology; PartNumber: LTC3127EDD#PBF; Output Current(A): 1; PackageVersion: Rev. C, 06/2010; PackageReference: DD-10; PackageDescription: 10-Pin Plastic DFN, Body 3 x 3 mm, Pitch 0.5 mm; Supplier 1: Digi-Key; Supplier Part Number 1: LTC3127EDD#PBF-ND; Supplier 2: Farnell; Supplier Part Number 2: 1839136; Supplier 3: Newark; Supplier Part Number 3: 67R4281; RoHS: TRUE; Topology: Buck-Boost; Mounting Technology: Surface Mount; Code_JEDEC: MO-229; ComponentLink1Description: Manufacturer URL; ComponentLink1URL: http://www.linear.com/; ComponentLink2Description: Datasheet; ComponentLink2URL: http://cds.linear.com/docs/en/datasheet/3127f.pdf; ComponentLink3Description: Package Specification; ComponentLink3URL: http://cds.linear.com/docs/en/packaging/DFN_10_05-08-1699.pdf
footprint LT-DD-10_V (SON, 10-Leads, Body 3x3mm, Pitch 0.5mm, Thermal Pad 2.38x1.65mm)
pins: 1 SW1 "Switch Pin Where Internal Switches A and B Are Connected. Connect inductor from SW1 to SW2. Minimize trace length to reduce EMI.", 2 VIN (power) "Input Supply Pin. Internal VCC for the IC. A 10uF or greater ceramic capacitor should be placed as close to VIN and PGND as possible.", 3 ~{SHDN} (in) "Logic-Controlled Shutdown Input. S\H\D\N\ = High: Normal Operation. S\H\D\N\ = Low: Shutdown", 4 MODE (in) "Pulse Width Modulation/Burst Mode Selection Input. MODE = High: Burst Mode Operation. MODE = Low: PWM Operation Only. Forced continuous conduction mode.", 5 PROG (in) "Sets the Average Input Current Limit Threshold. Connect a resistor from PROG to ground. See below for component value selection. RPROG = 54.92 • ILIMIT (A) + 4.94 (kohm)", 6 SGND (power) "Signal Ground for the IC. Terminate the PROG resistor, compensation components and the output voltage divider to SGND.", 7 FB (in) "Feedback Pin. Connect resistor divider tap here. The output voltage can be adjusted from 1.8V to 5.25V. The feedback reference voltage is 1.195V. VOUT=1.195 • (1+R2/R1)V", 8 VC "Error Amplifier Output. Place compensation components from this pin to SGND.", 9 VOUT (power) "Output of the Synchronous Rectifier. Connect the output filter capacitor from this pin to GND. A minimum value of 22uF is recommended. Output capacitors must be low ESR.", 10 SW2 "Switch Pin Where Internal Switches C and D Are Connected. Minimize trace length to reduce EMI.", 11 EP (power) "Power Ground. The exposed pad must be soldered to the PCB ground plane."

## LTC3127EDD#TRPBF
designator U?
1 A Buck-Boost DC/DC Converer with Porgrammable Input Current Limit, 1.8 to 5.5 V Vin, 5.25 V Vout MAX, 10-pin SON (DD-10), -40 to 85 degC, Pb-Free, Tape and Reel; Manufacturer: Linear Technology; PartNumber: LTC3127EDD#TRPBF; Output Current(A): 1; PackageVersion: Rev. C, 06/2010; PackageReference: DD-10; PackageDescription: 10-Pin Plastic DFN, Body 3 x 3 mm, Pitch 0.5 mm; Supplier 1: Digi-Key; Supplier Part Number 1: LTC3127EDD#TRPBF-ND; Supplier 2: Newark; Supplier Part Number 2: 13T8322; Packing: Tape and Reel; RoHS: TRUE; Topology: Buck-Boost; Mounting Technology: Surface Mount; Code_JEDEC: MO-229; ComponentLink1Description: Manufacturer URL; ComponentLink1URL: http://www.linear.com/; ComponentLink2Description: Datasheet; ComponentLink2URL: http://cds.linear.com/docs/en/datasheet/3127f.pdf; ComponentLink3Description: Package Specification; ComponentLink3URL: http://cds.linear.com/docs/en/packaging/DFN_10_05-08-1699.pdf
footprint LT-DD-10_V (SON, 10-Leads, Body 3x3mm, Pitch 0.5mm, Thermal Pad 2.38x1.65mm)
pins: 1 SW1 "Switch Pin Where Internal Switches A and B Are Connected. Connect inductor from SW1 to SW2. Minimize trace length to reduce EMI.", 2 VIN (power) "Input Supply Pin. Internal VCC for the IC. A 10uF or greater ceramic capacitor should be placed as close to VIN and PGND as possible.", 3 ~{SHDN} (in) "Logic-Controlled Shutdown Input. S\H\D\N\ = High: Normal Operation. S\H\D\N\ = Low: Shutdown", 4 MODE (in) "Pulse Width Modulation/Burst Mode Selection Input. MODE = High: Burst Mode Operation. MODE = Low: PWM Operation Only. Forced continuous conduction mode.", 5 PROG (in) "Sets the Average Input Current Limit Threshold. Connect a resistor from PROG to ground. See below for component value selection. RPROG = 54.92 • ILIMIT (A) + 4.94 (kohm)", 6 SGND (power) "Signal Ground for the IC. Terminate the PROG resistor, compensation components and the output voltage divider to SGND.", 7 FB (in) "Feedback Pin. Connect resistor divider tap here. The output voltage can be adjusted from 1.8V to 5.25V. The feedback reference voltage is 1.195V. VOUT=1.195 • (1+R2/R1)V", 8 VC "Error Amplifier Output. Place compensation components from this pin to SGND.", 9 VOUT (power) "Output of the Synchronous Rectifier. Connect the output filter capacitor from this pin to GND. A minimum value of 22uF is recommended. Output capacitors must be low ESR.", 10 SW2 "Switch Pin Where Internal Switches C and D Are Connected. Minimize trace length to reduce EMI.", 11 EP (power) "Power Ground. The exposed pad must be soldered to the PCB ground plane."